# EAGLE library part 649006227222 (library Wuerth_Elektronik_eiCan_Wire_to_Board_Connectors)
WR-MPC4-4.20mm Male Dual Row Angled Header with Mounting Pegs,6 pins=>Code : Con_WTB_MPC4_2_PCB_649006227222 <http://katalog.we-online.de/media/thumbs2/eican/thb_Con_WTB_MPC4_2_PCB_6490xx227222_pf2.jpg> Details see: http://katalog.we-online.de/en/em/649_0xx_227_222 Created 2014-06-06, Karrer Zheng 2014 (C) Würth Elektronik
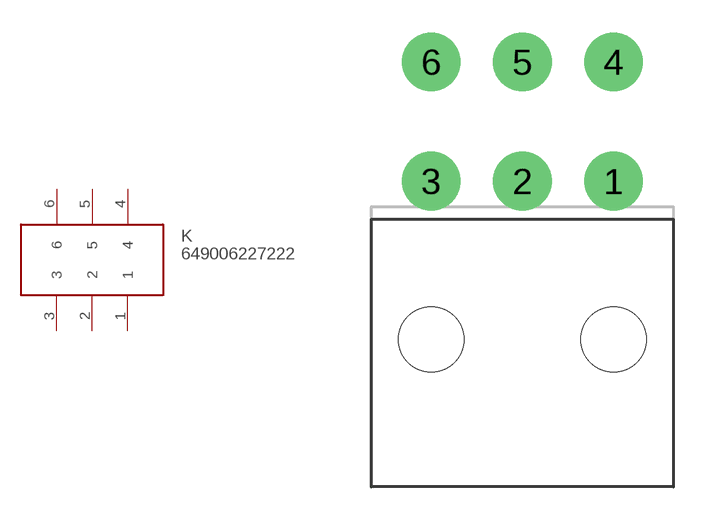
[diagram p278: symbol with the pads of 649006227222; footprint 649006227222]

Designator prefix K

## 649006227222  [649006227222]
1  1
2  2
3  3
4  4
5  5
6  6

## Footprint 649006227222 (pad centres in mm)
WR-MPC4-4.20mm Male Dual Row Angled Header with Mounting Pegs,6 pins
drill 1.8: 1 3.385,-2.75; 2 -0.815,-2.75; 3 -5.015,-2.75; 4 3.385,2.75; 5 -0.815,2.75; 6 -5.015,2.75
hole 3 at -5.015,-10.05
hole 3 at 3.385,-10.05